# Altium schematic symbol library SCH - PMU - AD ADP5041ACPZ-1-R7.Schlib: 1 symbol
Pins are listed as number, name and electrical type; pins without a type are passive.

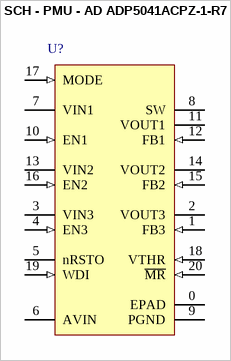
[diagram p0: symbol SCH - PMU - AD ADP5041ACPZ-1-R7]

## SCH - PMU - AD ADP5041ACPZ-1-R7
designator U?
footprint ADI-CP-20-10_N (QFN, 20-Leads, Body 4x4mm, Pitch 0.5mm, Thermal Pad 2.5x2.5mm, IPC Medium Density)
footprint ADI-CP-20-10_L (QFN, 20-Leads, Body 4x4mm, Pitch 0.5mm, Thermal Pad 2.5x2.5mm, IPC High Density)
footprint ADI-CP-20-10_M (QFN, 20-Leads, Body 4x4mm, Pitch 0.5mm, Thermal Pad 2.5x2.5mm, IPC Low Density)
pins: 0 EPAD (power) "Exposed Pad (Analog Ground). The exposed pad must be connected to the system ground plane.", 1 FB3 (in) "LDO2 Feedback Input.", 2 VOUT3 (power) "LDO2 Output Voltage.", 3 VIN3 (power) "LDO2 Input Supply (1.7 V to 5.5 V).", 4 EN3 (in) "Enable LDO2. EN3 = high: turn on LDO2; EN3 = low: turn off LDO2.", 5 nRSTO (oc) "Open-Drain Reset Output, Active Low.", 6 AVIN (power) "Housekeeping and Supervisory Input Supply (2.3 V to 5.5 V).", 7 VIN1 (power) "Buck Input Supply (2.3 V to 5.5 V).", 8 SW (power) "Buck Switching Node.", 9 PGND (power) "Dedicated Power Ground for Buck Regulator.", 10 EN1 (in) "Enable Buck. EN1 = high: turn on buck; EN1 = low: turn off buck.", 11 VOUT1 "Buck Output Sensing Node.", 12 FB1 (in) "Buck Feedback Input.", 13 VIN2 (power) "LDO1 Input Supply (1.7 V to 5.5 V).", 14 VOUT2 (power) "LDO1 Output Voltage.", 15 FB2 (in) "LDO1 Feedback Input.", 16 EN2 (in) "Enable LDO1. EN2 = high: turn on LDO1; EN2 = low: turn off LDO1.", 17 MODE (in) "Buck Mode. MODE = high; buck regulator operates in fixed PWM mode; MODE = low; buck regulator operates in power saving mode (PSM) at light load and in constant PWM at higher load.", 18 VTHR (in) "Reset Threshold Programming.", 19 WDI (in) "Watchdog Refresh Input from Processor. If WDI is in high-Z, watchdog is disabled.", 20 ~{MR} (in) "Manual Reset Input, Active Low."